# EAGLE library part 4053 (library ic)
CMOS Logic Devices, 4000 Series Based on the following sources: Motorola CMOS LOGIC DATA; book, 02/88, DL131 REV 1 http://www.elexp.com http://www.intersil.com http://www.ls3c.com.tw/product/1/COMOS.html Created by librarian@cadsoft.de
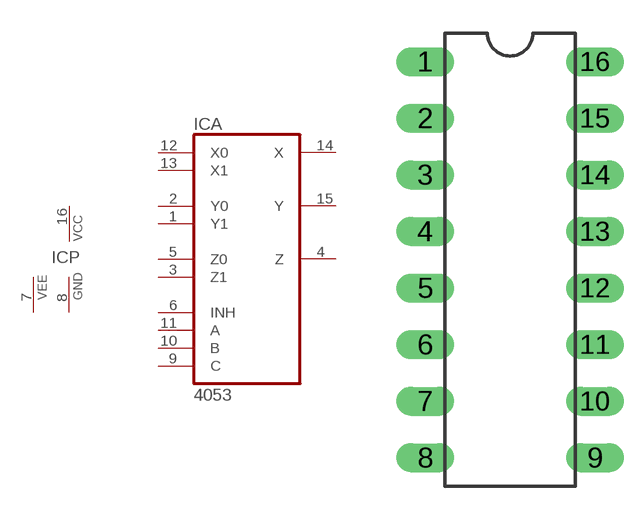
[diagram p28: symbol with the pads of DIL16; footprint DIL16]

Designator prefix IC; gates A=4053 P=PWR+VEE

## 4053N  [DIL16]
1  A:Y1
2  A:Y0
3  A:Z1
4  A:Z
5  A:Z0
6  A:INH  in
7  P:VEE  pwr
8  P:GND  pwr
9  A:C  in
10  A:B  in
11  A:A  in
12  A:X0
13  A:X1
14  A:X
15  A:Y
16  P:VCC  pwr

## Footprint DIL16 (pad centres in mm)
drill 0.8 long: 1 -3.81,8.89; 2 -3.81,6.35; 3 -3.81,3.81; 4 -3.81,1.27; 5 -3.81,-1.27; 6 -3.81,-3.81; 7 -3.81,-6.35; 8 -3.81,-8.89; 9 3.81,-8.89; 10 3.81,-6.35; 11 3.81,-3.81; 12 3.81,-1.27; 13 3.81,1.27; 14 3.81,3.81; 15 3.81,6.35; 16 3.81,8.89